# EAGLE library part TH7122 (library custom)
RF Transceiver IC Analog FSK/ASK
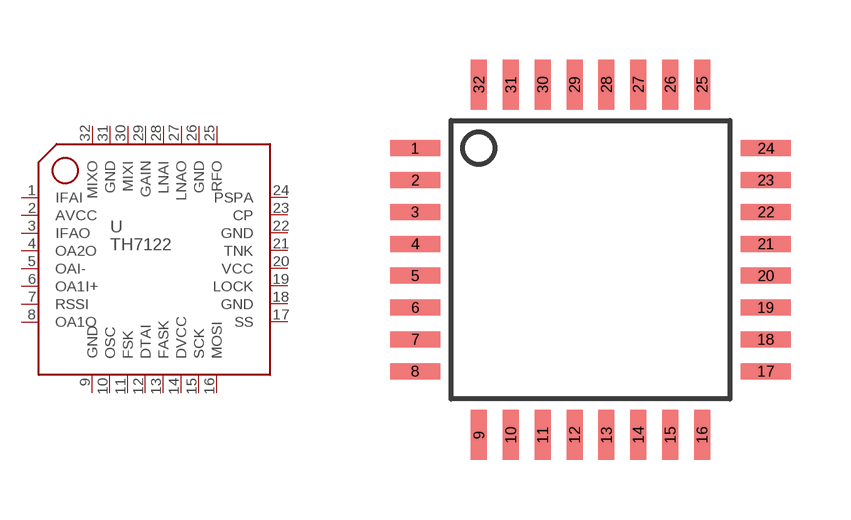
[diagram p42: symbol with the pads of TQFP32; footprint TQFP32]

Designator prefix U

## TH7122  [TQFP32]
1  IFAI
2  AVCC
3  IFAO
4  OA2O
5  OAI-
6  OA1I+
7  RSSI
8  OA1O
9  GND
10  OSC
11  FSK
12  DTAI
13  FASK
14  DVCC
15  SCK
16  MOSI
17  SS
18  GND
19  LOCK
20  VCC
21  TNK
22  GND
23  CP
24  PSPA
25  RFO
26  GND
27  LNAO
28  LNAI
29  GAIN
30  MIXI
31  GND
32  MIXO

## Footprint TQFP32 (pad centres in mm)
smd 1.25 x 0.4: 1 -4.4,2.8; 2 -4.4,2; 3 -4.4,1.2; 4 -4.4,0.4; 5 -4.4,-0.4; 6 -4.4,-1.2; 7 -4.4,-2; 8 -4.4,-2.8; 17 4.4,-2.8; 18 4.4,-2; 19 4.4,-1.2; 20 4.4,-0.4; 21 4.4,0.4; 22 4.4,1.2; 23 4.4,2; 24 4.4,2.8
smd 0.4 x 1.25: 9 -2.8,-4.4; 10 -2,-4.4; 11 -1.2,-4.4; 12 -0.4,-4.4; 13 0.4,-4.4; 14 1.2,-4.4; 15 2,-4.4; 16 2.8,-4.4; 25 2.8,4.4; 26 2,4.4; 27 1.2,4.4; 28 0.4,4.4; 29 -0.4,4.4; 30 -1.2,4.4; 31 -2,4.4; 32 -2.8,4.4